# Altium schematic symbol library Cole_.SchLib: 330 symbols (part 2 of 10)
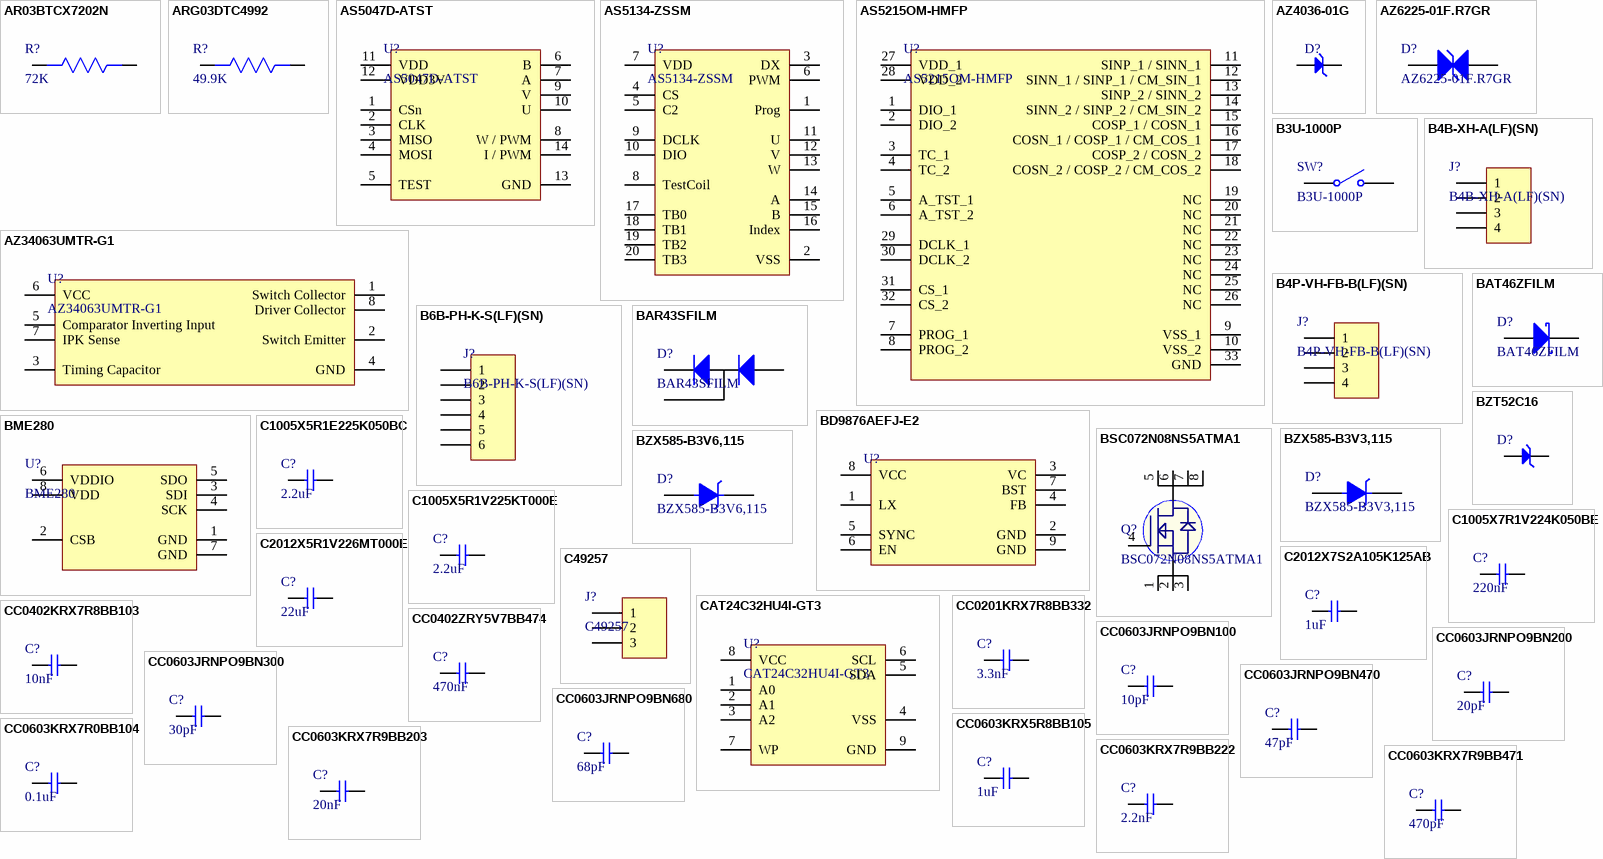
[diagram p9: symbols AR03BTCX7202N to CC0603KRX7R9BB471]

## B3U-1000P
designator SW?
SWITCH TACTILE SPST-NO 0.05A 12V; Manufacturer: Omron; Mechanical Life: 200000Cycles; Operating Force: 1.5N; Throw Configuration: SPST; Current Rating: 50mA; Contact Resistance: 100mR; Illumination Type: Non-Illuminated,Illuminated; Switch Travel: 0.15mm; Switch Function: Off-Mom; Actuator Type: Standard; Actuator Length: 0.4mm; Ratings: Dust Proof,IP40; ComponentLink1URL: http://www.farnell.com/datasheets/60838.pdf?src-supplier=Farnell; ComponentLink1Description: http://www.farnell.com/datasheets/60838.pdf?src-supplier=Farnell; ComponentLink2URL: http://www.farnell.com/datasheets/60838.pdf?src-supplier=Element14; ComponentLink2Description: http://www.farnell.com/datasheets/60838.pdf?src-supplier=Element14; ComponentLink3URL: https://omronfs.omron.com/en_US/ecb/products/pdf/en-b3u.pdf?src-supplier=Digi-Key; ComponentLink3Description: https://omronfs.omron.com/en_US/ecb/products/pdf/en-b3u.pdf?src-supplier=Digi-Key; ComponentLink4URL: http://www.omron.com/ecb/products/pdf/en-b3u.pdf?src-supplier=Digi-Key; ComponentLink4Description: http://www.omron.com/ecb/products/pdf/en-b3u.pdf?src-supplier=Digi-Key; ComponentLink5URL: https://www.distrelec.biz/Web/Downloads/he/et/B3U_eng_datasheet.pdf?mime=application%2Fpdf&src-supplier=Distrelec; ComponentLink5Description: https://www.distrelec.biz/Web/Downloads/he/et/B3U_eng_datasheet.pdf?mime=application%2Fpdf&src-supplier=Distrelec; ComponentLink6URL: http://www.onlinecomponents.com/productFiles/mf-OM/en-b3u.pdf?src-supplier=Onlinecomponents.com; ComponentLink6Description: http://www.onlinecomponents.com/productFiles/mf-OM/en-b3u.pdf?src-supplier=Onlinecomponents.com; Supplier 1: Digi-Key; Manufacturer Part Number: B3U-1000P; Stock 1: 116454; Pricing 1: 1=1, 10=0.961, 25=0.9064, 50=0.7976, 100=0.7251, 250=0.68888, 500=0.67074, 1000=0.52571 (USD); Mount: Surface Mount; Weight: 0.000776oz; Contact Material: Silver; Min Operating Temperature: -25°C; Max Operating Temperature: 70°C; Packaging: Tape and Reel; Voltage Rating (DC): 12V; Package Quantity: 1; Max Current Rating: 50mA; Termination: SMD/SMT; Orientation: Straight; Max Voltage Rating (DC): 12V; Electrical Life: 200000Cycles; Insulation Resistance: 100MR; Contact Current Rating: 50mA; Length: 4mm; Height: 1.2mm; Depth: 2.5mm; Width: 3mm; REACH SVHC: Unknown; Lead Free: Lead Free; ComponentLink7URL: https://www.verical.com/server-webapp/html/getDatasheet?partID=552554&src-supplier=Verical; ComponentLink7Description: https://www.verical.com/server-webapp/html/getDatasheet?partID=552554&src-supplier=Verical; ComponentLink8URL: http://www.farnell.com/datasheets/1685550.pdf?src-supplier=Element14; ComponentLink8Description: http://www.farnell.com/datasheets/1685550.pdf?src-supplier=Element14; ComponentLink9URL: http://www.farnell.com/datasheets/2610940.pdf?src-supplier=Farnell; ComponentLink9Description: http://www.farnell.com/datasheets/2610940.pdf?src-supplier=Farnell; ComponentLink10URL: https://www.alliedelec.com/m/d/4c8a9ef82804fc3c241a13c1e298fd73.pdf?src-supplier=Allied+Electronics; ComponentLink10Description: https://www.alliedelec.com/m/d/4c8a9ef82804fc3c241a13c1e298fd73.pdf?src-supplier=Allied+Electronics; Supplier Part Number 1: SW1020DKR-ND
footprint B3U-1000P (SWITCH TACTILE SPST-NO 0.05A 12V)
pins: 1, 2

## B4B-XH-A(LF)(SN)
designator J?
CONN HEADER VERT 4POS 2.5MM; Manufacturer: JST; Current Rating: 3A; Gender: Male; Contact Resistance: 20mR; Voltage Rating (AC): 250V; Connector Type: Male Pin; Number of Positions: 4; Insulation Resistance: 1GR; Wire/Cable Gauge: 22AWG; Supplier 1: Future Electronics; Manufacturer Part Number: B4B-XH-A(LF)(SN); RoHS: Yes; Category: FFC / FPC; Pricing 1: 1=0.13000, 300=0.11300, 1000=0.11000, 3000=0.10700, 10000=0.10400 (USD); Mount: Through Hole; Contact Material: Brass; Material: Polyamide; Contact Plating: Tin,Copper,Lead; Color: Natural; Housing Material: Polyamide; Housing Color: White; Min Operating Temperature: -25°C; Max Operating Temperature: 85°C; Number of Rows: 1; Max Current Rating: 3A; Package Quantity: 500; Packaging: Bulk; Voltage Rating: 250V; Termination: Press-Fit; Max Voltage Rating (AC): 250V; Max Voltage Rating (DC): 250V; Number of Contacts: 4; Orientation: Straight; Length: 12.4mm; Pitch: 2.5mm; Lead Pitch: 2.5mm; Depth: 5.75mm; REACH SVHC: No SVHC; Lead Free: Lead Free; ComponentLink1URL: https://datasheet.ciiva.com/26894/getdatasheetpartid-455616-26894787.pdf?src-supplier=Verical; ComponentLink1Description: https://datasheet.ciiva.com/26894/getdatasheetpartid-455616-26894787.pdf?src-supplier=Verical; ComponentLink2URL: https://datasheet.ciiva.com/26924/getdatasheetpartid-640571-26924035.pdf?src-supplier=Verical; ComponentLink2Description: https://datasheet.ciiva.com/26924/getdatasheetpartid-640571-26924035.pdf?src-supplier=Verical; ComponentLink3URL: https://datasheet.ciiva.com/16203/b4b-xh-alfsn-16203642.pdf?src-supplier=Future+Electronics; ComponentLink3Description: https://datasheet.ciiva.com/16203/b4b-xh-alfsn-16203642.pdf?src-supplier=Future+Electronics; ComponentLink4URL: https://datasheet.ciiva.com/726/exh-726404.pdf?src-supplier=Digi-Key; ComponentLink4Description: https://datasheet.ciiva.com/726/exh-726404.pdf?src-supplier=Digi-Key; Supplier Part Number 1: 8134090
footprint B4B-XH-A(LF)(SN)
pins: 1, 2, 3, 4

## B4P-VH-FB-B(LF)(SN)
designator J?
CONN HEADER VERT 4POS 3.96MM; Manufacturer: JST; Number of Positions: 4; Supplier 1: Future Electronics; Manufacturer Part Number: B4P-VH-FB-B(LF)(SN); RoHS: Yes; Category: Connectors; Pricing 1: 1=0.22000, 200=0.19300, 500=0.18800, 2000=0.18200, 5000=0.17800 (USD); Mount: Through Hole; Termination: Crimp; Pitch: 3.96mm; Lead Free: Lead Free; ComponentLink1URL: https://datasheet.ciiva.com/16292/b4p-vh-fb-blfsn-16292309.pdf?src-supplier=Future+Electronics; ComponentLink1Description: https://datasheet.ciiva.com/16292/b4p-vh-fb-blfsn-16292309.pdf?src-supplier=Future+Electronics; Supplier Part Number 1: 4271011
footprint B4P-VH-FB-B(LF)(SN) (CONN HEADER VERT 4POS 3.96MM)
pins: 1, 2, 3, 4

## B6B-PH-K-S(LF)(SN)
designator J?
CONN HEADER VERT 6POS 2MM; Manufacturer: JST; Current Rating: 2A; Number of Positions: 6; Insulation Resistance: 1MR; Working Voltage: 100V; Gender: Male; Contact Resistance: 20mR; Connector Type: Male Pin; Supplier 1: Digi-Key; Manufacturer Part Number: B6B-PH-K-S(LF)(SN); RoHS: Yes; Category: Connectors; Stock 1: 6509; Pricing 1: 1=0.33000, 10=0.31300, 100=0.21940, 500=0.18808, 1000=0.15674, 5000=0.13435, 10000=0.12539 (USD); Mount: Through Hole; Number of Pins: 6; Contact Material: Tin,Brass; Color: Natural; Contact Plating: Tin,Copper; Housing Material: Polyamide; Housing Color: White; Min Operating Temperature: -25°C; Max Operating Temperature: 85°C; Termination: Solder; Fastening Type: Detent; Number of Contacts: 6; Max Voltage Rating (AC): 100V; Number of Rows: 1; Packaging: Bulk; Number of Poles: 6; Voltage Rating (AC): 100V; Max Current Rating: 2A; Voltage Rating: 100V; Orientation: Straight; Length: 13.9mm; Width: 4.5mm; Height: 9.4mm; Pitch: 2mm; Contact Mating Length: 0.13inch; Depth: 4.5mm; Lead Pitch: 2mm; Lead Free: Lead Free; REACH SVHC: No SVHC; ComponentLink1URL: https://datasheet.ciiva.com/11747/0900766b8082f554-11747368.pdf?src-supplier=RSComponents; ComponentLink1Description: https://datasheet.ciiva.com/11747/0900766b8082f554-11747368.pdf?src-supplier=RSComponents; ComponentLink2URL: https://datasheet.ciiva.com/712/eph-712563.pdf?src-supplier=Digi-Key; ComponentLink2Description: https://datasheet.ciiva.com/712/eph-712563.pdf?src-supplier=Digi-Key; ComponentLink3URL: https://datasheet.ciiva.com/26894/getdatasheetpartid-639917-26894487.pdf?src-supplier=Verical; ComponentLink3Description: https://datasheet.ciiva.com/26894/getdatasheetpartid-639917-26894487.pdf?src-supplier=Verical; ComponentLink4URL: https://datasheet.ciiva.com/20207/523648-20207241.pdf?src-supplier=Rapid+Electronics; ComponentLink4Description: https://datasheet.ciiva.com/20207/523648-20207241.pdf?src-supplier=Rapid+Electronics; ComponentLink5URL: https://datasheet.ciiva.com/8052/80560-8052027.pdf?src-supplier=Element14; ComponentLink5Description: https://datasheet.ciiva.com/8052/80560-8052027.pdf?src-supplier=Element14; Supplier Part Number 1: 455-1708-ND
footprint B6B-PH-K-S(LF)(SN)
pins: 1, 2, 3, 4, 5, 6

## BAR43SFILM
designator D?
DIODE ARRAY SCHOTTKY 30V SOT23-3; Manufacturer: STMicroelectronics; Forward Voltage: 1V; Forward Current: 100mA; Max Reverse Current: 500nA; Reverse Recovery Time: 5ns; Peak Non-Repetitive Surge Current: 750mA; Capacitance: 7pF; Power Dissipation: 250mW; Element Configuration: Dual; Supplier 1: Avnet; Manufacturer Part Number: BAR43SFILM; RoHS: Yes; Category: Rectifier Diodes; Stock 1: 1953000; Pricing 1: 3000=0.04883, 6000=0.04037, 12000=0.04002, 18000=0.03947, 24000=0.03887, 30000=0.03857, 300000=0.03827 (USD); Mount: Surface Mount; Case/Package: SOT-23; Number of Pins: 3; Weight: 0.01lb; Min Operating Temperature: -65°C; Max Operating Temperature: 150°C; Packaging: Tape and Reel; Max Repetitive Reverse Voltage (Vrrm): 30V; Current Rating: 100mA; Voltage Rating (DC): 30V; Max Surge Current: 750mA; Package Quantity: 3000; Recovery Time: 5ns; Max Reverse Leakage Current: 500nA; Average Rectified Current: 100mA; Max Forward Surge Current (Ifsm): 750mA; Termination: SMD/SMT; Max Reverse Voltage (DC): 30V; Length: 2.9mm; Width: 3.05mm; Height: 0.95mm; Radiation Hardening: No; REACH SVHC: No SVHC; Lead Free: Lead Free; RoHS Compliant: Yes; ComponentLink1URL: https://datasheet.ciiva.com/1177/1700360-1177600.pdf?src-supplier=Element14; ComponentLink1Description: https://datasheet.ciiva.com/1177/1700360-1177600.pdf?src-supplier=Element14; ComponentLink2URL: https://datasheet.ciiva.com/4714/cd00000764-105363-4714418.pdf?src-supplier=Mouser; ComponentLink2Description: https://datasheet.ciiva.com/4714/cd00000764-105363-4714418.pdf?src-supplier=Mouser; ComponentLink3URL: https://datasheet.ciiva.com/34301/924342-34301780.pdf?src-supplier=Jameco; ComponentLink3Description: https://datasheet.ciiva.com/34301/924342-34301780.pdf?src-supplier=Jameco; ComponentLink4URL: https://datasheet.ciiva.com/905/cd00000764-905875.pdf?src-supplier=Digi-Key; ComponentLink4Description: https://datasheet.ciiva.com/905/cd00000764-905875.pdf?src-supplier=Digi-Key; ComponentLink5URL: https://datasheet.ciiva.com/905/cd00000764-905876.pdf?src-supplier=Digi-Key; ComponentLink5Description: https://datasheet.ciiva.com/905/cd00000764-905876.pdf?src-supplier=Digi-Key; ComponentLink6URL: https://datasheet.ciiva.com/905/cd00000764-905877.pdf?src-supplier=Digi-Key; ComponentLink6Description: https://datasheet.ciiva.com/905/cd00000764-905877.pdf?src-supplier=Digi-Key; ComponentLink7URL: https://datasheet.ciiva.com/7964/1700360-7964102.pdf?src-supplier=Element14; ComponentLink7Description: https://datasheet.ciiva.com/7964/1700360-7964102.pdf?src-supplier=Element14; ComponentLink8URL: https://datasheet.ciiva.com/1200/1700360-1200008.pdf?src-supplier=Farnell; ComponentLink8Description: https://datasheet.ciiva.com/1200/1700360-1200008.pdf?src-supplier=Farnell; ComponentLink9URL: https://datasheet.ciiva.com/1199/1700360-1199962.pdf?src-supplier=Farnell; ComponentLink9Description: https://datasheet.ciiva.com/1199/1700360-1199962.pdf?src-supplier=Farnell; ComponentLink10URL: https://datasheet.ciiva.com/15144/getdatasheetpartid-39351-15144075.pdf?src-supplier=Verical; ComponentLink10Description: https://datasheet.ciiva.com/15144/getdatasheetpartid-39351-15144075.pdf?src-supplier=Verical; ComponentLink11URL: https://datasheet.ciiva.com/16226/cd00000764-16226780.pdf?src-supplier=Future+Electronics; ComponentLink11Description: https://datasheet.ciiva.com/16226/cd00000764-16226780.pdf?src-supplier=Future+Electronics; ComponentLink12URL: https://datasheet.ciiva.com/27746/47-2902e-27746700.pdf?src-supplier=Rapid+Electronics; ComponentLink12Description: https://datasheet.ciiva.com/27746/47-2902e-27746700.pdf?src-supplier=Rapid+Electronics; ComponentLink13URL: https://datasheet.ciiva.com/1177/1837092-1177598.pdf?src-supplier=Element14; ComponentLink13Description: https://datasheet.ciiva.com/1177/1837092-1177598.pdf?src-supplier=Element14; ComponentLink14URL: https://datasheet.ciiva.com/14560/70013844-14560526.pdf?src-supplier=Allied+Electronics; ComponentLink14Description: https://datasheet.ciiva.com/14560/70013844-14560526.pdf?src-supplier=Allied+Electronics; ComponentLink15URL: https://datasheet.ciiva.com/1177/1837092-1177599.pdf?src-supplier=Element14; ComponentLink15Description: https://datasheet.ciiva.com/1177/1837092-1177599.pdf?src-supplier=Element14; Supplier Part Number 1: BAR43SFILM
footprint SOT-23 (TRANS NPN 40V 0.6A SOT23)
pins: 1 A2, 2 K1, 3 A1/K2

## BAT46ZFILM
designator D?
DIODE SCHOTTKY 100V 150MA SOD123; Manufacturer: STMicroelectronics; Peak Non-Repetitive Surge Current: 1A; Element Configuration: Single; Forward Voltage: 1V; Max Reverse Current: 20uA; Max Reverse Leakage Current: 5uA; Polarity: Standard; Current Rating: 160mA; Capacitance: 10pF; Supplier 1: Digi-Key; Manufacturer Part Number: BAT46ZFILM; RoHS: Yes; Category: Rectifier Diodes; Stock 1: 691; Pricing 1: 1=0.37000, 10=0.27400, 100=0.15510, 500=0.10272, 1000=0.07875 (USD); Mount: Surface Mount; Number of Pins: 2; Contact Plating: Tin,Matte; Min Operating Temperature: -65°C; Max Operating Temperature: 150°C; Forward Current: 150mA; Max Repetitive Reverse Voltage (Vrrm): 100V; Max Surge Current: 1A; Package Quantity: 3000; Packaging: Tape and Reel; Average Rectified Current: 150mA; Max Forward Surge Current (Ifsm): 1A; Voltage Rating (DC): 100V; Output Current: 150mA; Max Reverse Voltage (DC): 100V; Series: -; Length: 2.85mm; Width: 1.7mm; Height: 1.35mm; Radiation Hardening: No; REACH SVHC: No SVHC; Lead Free: Lead Free; RoHS Compliant: Yes; ComponentLink1URL: https://datasheet.ciiva.com/23920/cd00004930-23920128.pdf?src-supplier=Newark; ComponentLink1Description: https://datasheet.ciiva.com/23920/cd00004930-23920128.pdf?src-supplier=Newark; ComponentLink2URL: https://datasheet.ciiva.com/4714/cd00004930-111868-4714530.pdf?src-supplier=Mouser; ComponentLink2Description: https://datasheet.ciiva.com/4714/cd00004930-111868-4714530.pdf?src-supplier=Mouser; ComponentLink3URL: https://datasheet.ciiva.com/17097/bat46zfilm-17097700.pdf?src-supplier=Allied+Electronics; ComponentLink3Description: https://datasheet.ciiva.com/17097/bat46zfilm-17097700.pdf?src-supplier=Allied+Electronics; ComponentLink4URL: https://datasheet.ciiva.com/14168/cd00004930-14168058.pdf?src-supplier=Distrelec; ComponentLink4Description: https://datasheet.ciiva.com/14168/cd00004930-14168058.pdf?src-supplier=Distrelec; ComponentLink5URL: https://datasheet.ciiva.com/915/cd00004930-915571.pdf?src-supplier=Digi-Key; ComponentLink5Description: https://datasheet.ciiva.com/915/cd00004930-915571.pdf?src-supplier=Digi-Key; ComponentLink6URL: https://datasheet.ciiva.com/915/cd00004930-915572.pdf?src-supplier=Digi-Key; ComponentLink6Description: https://datasheet.ciiva.com/915/cd00004930-915572.pdf?src-supplier=Digi-Key; ComponentLink7URL: https://datasheet.ciiva.com/915/cd00004930-915573.pdf?src-supplier=Digi-Key; ComponentLink7Description: https://datasheet.ciiva.com/915/cd00004930-915573.pdf?src-supplier=Digi-Key; ComponentLink8URL: https://datasheet.ciiva.com/15144/getdatasheetpartid-89559-15144645.pdf?src-supplier=Verical; ComponentLink8Description: https://datasheet.ciiva.com/15144/getdatasheetpartid-89559-15144645.pdf?src-supplier=Verical; ComponentLink9URL: https://datasheet.ciiva.com/16575/cd00004930-16575814.pdf?src-supplier=Avnet+Europe; ComponentLink9Description: https://datasheet.ciiva.com/16575/cd00004930-16575814.pdf?src-supplier=Avnet+Europe; ComponentLink10URL: https://datasheet.ciiva.com/16221/cd00004930-16221159.pdf?src-supplier=Future+Electronics; ComponentLink10Description: https://datasheet.ciiva.com/16221/cd00004930-16221159.pdf?src-supplier=Future+Electronics; ComponentLink11URL: https://datasheet.ciiva.com/22733/1761349-22733179.pdf?src-supplier=Element14; ComponentLink11Description: https://datasheet.ciiva.com/22733/1761349-22733179.pdf?src-supplier=Element14; Supplier Part Number 1: 497-5559-1-ND
footprint SOD-123 (DIODE SCHOTTKY 100V 150MA SOD123)
pins: 1 K, 2 A

## BD9876AEFJ-E2
designator U?
NO Step-down type 1 Step-down 1V~29.4V 7V~42V 3A 300kHz SOIC-8_EP_150mil DC-DC Converters ROHS; Manufacturer: ROHM Semicon; Manufacturer Part Number: BD9876AEFJ-E2; ComponentLink1Description: LCSC; ComponentLink1URL: https://www.lcsc.com/product-detail/DC-DC-Converters_ROHM-Semicon-BD9876AEFJ-E2_C79958.html; Footprint: SOIC-8_EP_150mil
footprint 8-HTSOP-J
pins: 1 LX, 2 GND, 3 VC, 4 FB, 5 SYNC, 6 EN, 7 BST, 8 VCC, 9 GND

## BME280
designator U?
Humidity, Pressure, Temperature Sensor I²C Output; Manufacturer: Bosch; ComponentLink1URL: http://www.mouser.com/ds/2/783/BST-BME280_DS001-11-844833.pdf; ComponentLink1Description: http://www.mouser.com/ds/2/783/BST-BME280_DS001-11-844833.pdf; ComponentLink2URL: https://ae-bst.resource.bosch.com/media/_tech/media/others/Bosch_Sensortec_Product_overview.pdf; ComponentLink2Description: https://ae-bst.resource.bosch.com/media/_tech/media/others/Bosch_Sensortec_Product_overview.pdf; Supplier 1: Digi-Key; Manufacturer Part Number: BME280; Stock 1: 62235; Pricing 1: 1=7.56, 5=6.628, 10=5.965, 25=5.302, 50=4.9044, 100=4.2416, 500=3.9765, 1000=3.7114 (USD); Lead Free: Lead Free; ComponentLink3URL: https://ae-bst.resource.bosch.com/media/_tech/media/product_flyer/BME280_Productflyer_BST_20170109.pdf; ComponentLink3Description: https://ae-bst.resource.bosch.com/media/_tech/media/product_flyer/BME280_Productflyer_BST_20170109.pdf; Supplier Part Number 1: 828-1063-1-ND
footprint BME280 (Humidity, Pressure, Temperature Sensor I²C Output)
pins: 1 GND, 2 CSB, 3 SDI, 4 SCK, 5 SDO, 6 VDDIO, 7 GND, 8 VDD

## BSC072N08NS5ATMA1
designator Q?
MOSFET N-CH 80V 74A 8TDSON; Manufacturer: Infineon; Rds On Max: 7.2mR; Input Capacitance: 2.1nF; Max Power Dissipation: 2.5W; Element Configuration: Single; Number of Channels: 1; Drain to Source Resistance: 10.4mR; Gate to Source Voltage (Vgs): 20V; Fall Time: 5ns; Rise Time: 7ns; Turn-Off Delay Time: 19ns; Turn-On Delay Time: 10ns; Supplier 1: Avnet; Manufacturer Part Number: BSC072N08NS5ATMA1; RoHS: Yes; Category: MOSFETs; Pricing 1: 5000=0.70449, 10000=0.68054, 20000=0.66110, 30000=0.64651, 40000=0.62221, 50000=0.60641, 500000=0.59061 (USD); Mount: Surface Mount; Number of Pins: 8; Weight: 0.01787oz; Min Operating Temperature: -55°C; Max Operating Temperature: 150°C; Packaging: Tape and Reel; Drain to Source Voltage (Vdss): 80V; Continuous Drain Current (ID): 74A; Package Quantity: 5000; Max Dual Supply Voltage: 80V; Lead Free: Contains Lead; Halogen Free: Halogen Free; ComponentLink1URL: http://www.mouser.com/ds/2/196/Infineon-BSC072N08NS5-DS-v02_00-EN-531318.pdf?src-supplier=Mouser; ComponentLink1Description: http://www.mouser.com/ds/2/196/Infineon-BSC072N08NS5-DS-v02_00-EN-531318.pdf?src-supplier=Mouser; ComponentLink2URL: https://www.infineon.com/dgdl/Infineon-BSC072N08NS5-DS-v02_00-EN.pdf?fileId=5546d4624ad04ef9014ae3d8e8192c7c&src-supplier=Digi-Key; ComponentLink2Description: https://www.infineon.com/dgdl/Infineon-BSC072N08NS5-DS-v02_00-EN.pdf?fileId=5546d4624ad04ef9014ae3d8e8192c7c&src-supplier=Digi-Key; Supplier Part Number 1: BSC072N08NS5ATMA1
footprint 8-PowerTDFN (MOSFET N-CH 80V 74A TDSON)
pins: 1 S, 2 S, 3 S, 4 G, 5 D, 6 D, 7 D, 8 D

## BZT52C16
designator D?
±5% Single 15.3V~17.1V 500mW 16V SOD-123 Zener Diodes ROHS; Manufacturer: Shikues; Manufacturer Part Number: BZT52C16; Package: SOD-123; LCSC Part Number: C216724; Item Type: Zener Diode; ComponentLink1Description: LCSC; ComponentLink1URL: https://www.lcsc.com/product-detail/Zener-Diodes_Shikues-BZT52C16_C216724.html
footprint SOD-123
pins: 1 A, 2 K

## BZX585-B3V3,115
designator D?
DIODE ZENER 3.3V 300MW SOD523; Manufacturer: Nexperia; Supplier 1: Digi-Key; Manufacturer Part Number: BZX585-B3V3,115; RoHS: Yes; Category: Zener Diodes; Stock 1: 4531; Pricing 1: 1=0.27000, 10=0.22500, 100=0.11910, 500=0.07838, 1000=0.05330 (USD); RoHS Compliant: Yes; ComponentLink1URL: http://www.farnell.com/datasheets/2174102.pdf?src-supplier=Farnell; ComponentLink1Description: http://www.farnell.com/datasheets/2174102.pdf?src-supplier=Farnell; ComponentLink2URL: https://assets.nexperia.com/documents/data-sheet/BZX585_SERIES.pdf?src-supplier=Digi-Key; ComponentLink2Description: https://assets.nexperia.com/documents/data-sheet/BZX585_SERIES.pdf?src-supplier=Digi-Key; Supplier Part Number 1: 1727-4995-1-ND
footprint SOD-523F
pins: 1 ANODE, 2 CATHODE

## BZX585-B3V6,115
designator D?
DIODE ZENER 3.6V 300MW SOD523; Manufacturer: Nexperia; Supplier 1: Digi-Key; Manufacturer Part Number: BZX585-B3V6,115; RoHS: Yes; Stock 1: 4116; Pricing 1: 1=0.27000, 10=0.22500, 100=0.11910, 500=0.07838, 1000=0.05330 (USD); RoHS Compliant: Yes; Supplier Part Number 1: 1727-2104-1-ND
footprint SOD-523F
pins: 1 ANODE, 2 CATHODE

## C1005X5R1E225K050BC
designator C?, comment 2.2uF
CAP CER 2.2UF 25V X5R 0402; Manufacturer: TDK; Manufacturer Part Number: C1005X5R1E225K050BC; Dielectric Material: Ceramic; Tolerance: 10%; Supplier 1: Digi-Key; RoHS: Yes; Category: Ceramic Capacitors; Stock 1: 547; Pricing 1: 1=0.31000, 10=0.21000, 50=0.13980, 100=0.11890, 500=0.08390, 1000=0.07342, 2500=0.06992, 5000=0.06468 (USD); Mount: Surface Mount; Case/Package: 0402; Case Code (Imperial): 0402; Case Code (Metric): 1005; Weight: 2.3E-05oz; Min Operating Temperature: -55°C; Max Operating Temperature: 85°C; Capacitance: 2.2uF; Packaging: Tape and Reel; Voltage Rating: 25V; Termination: SMD/SMT; Voltage Rating (DC): 25V; Package Quantity: 1; Dielectric: X5R; Series: C; Resistor Type: Ceramic; Length: 1mm; Width: 0.5mm; Height: 0.5mm; Thickness: 0.022inch; Depth: 0.5mm; REACH SVHC: No SVHC; RoHS Compliant: Yes; Lead Free: Lead Free; ComponentLink1URL: https://datasheet.ciiva.com/24217/c1005x5r1e225k050bc-264404-24217075.pdf?src-supplier=Mouser; ComponentLink1Description: https://datasheet.ciiva.com/24217/c1005x5r1e225k050bc-264404-24217075.pdf?src-supplier=Mouser; ComponentLink2URL: https://datasheet.ciiva.com/6276/tdkmlcccaprange-6276808.pdf?src-supplier=Digi-Key; ComponentLink2Description: https://datasheet.ciiva.com/6276/tdkmlcccaprange-6276808.pdf?src-supplier=Digi-Key; ComponentLink3URL: https://datasheet.ciiva.com/6276/tdkmlcccaprange-6276806.pdf?src-supplier=Digi-Key; ComponentLink3Description: https://datasheet.ciiva.com/6276/tdkmlcccaprange-6276806.pdf?src-supplier=Digi-Key; ComponentLink4URL: https://datasheet.ciiva.com/6276/tdkmlcccaprange-6276810.pdf?src-supplier=Digi-Key; ComponentLink4Description: https://datasheet.ciiva.com/6276/tdkmlcccaprange-6276810.pdf?src-supplier=Digi-Key; Supplier Part Number 1: 445-9090-1-ND
footprint Cap 0402
pins: 1, 2

## C1005X5R1V225KT000E
designator C?, comment 2.2uF
CAP CER 2.2UF 35V X5R 0402; Manufacturer: TDK; Tolerance: ±10%; Capacitance: 2.2uF; Voltage - Rated: 35V; Temperature Coefficient: X5R
footprint Cap 0402
pins: 1, 2

## C1005X7R1V224K050BE
designator C?, comment 220nF
CAP CER 0.22UF 35V X7R 0402; Manufacturer: TDK; Manufacturer Part Number: C1005X7R1V224K050BE; Tolerance: 10%; Supplier 1: Digi-Key; RoHS: Yes; Category: Ceramic Capacitors; Stock 1: 294134; Pricing 1: 1=0.24000, 10=0.16500, 50=0.09900, 100=0.08360, 500=0.05720, 1000=0.05060, 2500=0.04840, 5000=0.04400 (USD); Mount: Surface Mount; Case/Package: 0402; Case Code (Metric): 1005; Case Code (Imperial): 0402; Min Operating Temperature: -55°C; Max Operating Temperature: 125°C; Packaging: Tape and Reel; Capacitance: 220nF; Voltage Rating: 35V; Features: Soft Termination; Length: 0.039inch; Width: 0.02inch; Thickness: 0.024inch; RoHS Compliant: Yes; ComponentLink1URL: https://product.tdk.com/info/en/catalog/spec/mlccspec_commercial_soft_en.pdf?src-supplier=Digi-Key; ComponentLink1Description: https://product.tdk.com/info/en/catalog/spec/mlccspec_commercial_soft_en.pdf?src-supplier=Digi-Key; Supplier Part Number 1: 445-173778-1-ND
footprint Cap 0402
pins: 1, 2

## C2012X5R1V226MT000E
designator C?, comment 22uF
CAP CER 22UF 35V X5R 0805
footprint Cap0805 (SMD 0805)
pins: 1, 2

## C2012X7S2A105K125AB
designator C?, comment 1uF
CAP CER 1UF 100V X7S 0805; Manufacturer: TDK; Manufacturer Part Number: C2012X7S2A105K125AB; Tolerance: 10%; ComponentLink1URL: https://datasheet.ciiva.com/25711/cl31b105kchnnne-25711248.pdf?src-supplier=Digi-Key; ComponentLink1Description: https://datasheet.ciiva.com/25711/cl31b105kchnnne-25711248.pdf?src-supplier=Digi-Key; ComponentLink2URL: https://datasheet.ciiva.com/16437/clseries-16437207.pdf?src-supplier=Future+Electronics; ComponentLink2Description: https://datasheet.ciiva.com/16437/clseries-16437207.pdf?src-supplier=Future+Electronics; Supplier 1: Mouser; RoHS: Yes; Category: Ceramic Capacitors; Stock 1: 18167; Pricing 1: 1=0.50000, 10=0.24200, 50=0.24200, 100=0.20700, 1000=0.13200, 10000=0.12400 (USD); Mount: Surface Mount; Case/Package: 0805; Number of Pins: 2; Case Code (Imperial): 0805; Case Code (Metric): 2012; Weight: 0.000194oz; Min Operating Temperature: -55°C; Max Operating Temperature: 125°C; Capacitance: 1uF; Voltage Rating: 100V; Voltage Rating (DC): 100V; Packaging: Tape and Reel; Package Quantity: 1; Dielectric: X7S; Termination: SMD/SMT; Resistor Type: Ceramic; Voltage: 100V; Series: C; Length: 2mm; Width: 1.25mm; Height: 1.25mm; Thickness: 0.053inch; Depth: 1.25mm; REACH SVHC: No SVHC; Lead Free: Lead Free; RoHS Compliant: Yes; ComponentLink3URL: https://datasheet.ciiva.com/24216/c2012x7s2a105k125ab-265082-24216433.pdf?src-supplier=Mouser; ComponentLink3Description: https://datasheet.ciiva.com/24216/c2012x7s2a105k125ab-265082-24216433.pdf?src-supplier=Mouser; ComponentLink4URL: https://datasheet.ciiva.com/16427/newmlccproducts-16427795.pdf?src-supplier=Future+Electronics; ComponentLink4Description: https://datasheet.ciiva.com/16427/newmlccproducts-16427795.pdf?src-supplier=Future+Electronics; ComponentLink5URL: https://datasheet.ciiva.com/8079/1833281-8079405.pdf?src-supplier=Element14; ComponentLink5Description: https://datasheet.ciiva.com/8079/1833281-8079405.pdf?src-supplier=Element14; Supplier Part Number 1: 810-C2012X7S2A105K
footprint Cap0805 (SMD 0805)
pins: 1, 2

## C49257
designator J?
Pin Header 3 Straight.2.54mm TH Pin Header; Manufacturer: BOOMELE(Boom Precision Elec); Package: Through Hole; Connector Type: Pin Header; Type: Straight，180degrees
footprint C49257 (Pin Header 3 1 Straight,180degrees)
pins: 1, 2, 3

## CAT24C32HU4I-GT3
designator U?
IC EEPROM 32KBIT I2C 1MHZ 8UDFN; Manufacturer: ON Semiconductor; Interface: I2C,Serial,2-Wire; Density: 32Kb; Max Supply Voltage: 5.5V; Min Supply Voltage: 1.7V; Number of Words: 4096; Access Time: 3500ns; Frequency: 100kHz; Nominal Supply Current: 2mA; Operating Supply Voltage: 5V; Organization: 4KX8; Access Time-Max: 900ns; Write Protection: YES; Supplier 1: Digi-Key; Manufacturer Part Number: CAT24C32HU4I-GT3; RoHS: Yes; Category: EEPROM; Stock 1: 5701; Pricing 1: 1=0.47000, 10=0.45700, 25=0.42440, 50=0.42220, 100=0.37490, 250=0.37012, 500=0.36452, 1000=0.35478 (USD); Mount: Surface Mount; Number of Pins: 8; Contact Plating: Gold; Min Operating Temperature: -40°C; Max Operating Temperature: 85°C; Packaging: Tape and Reel; Package Quantity: 3000; Memory Type: EEPROM; Memory Size: 32Kb; Max Frequency: 1MHz; Series: -; Supply Current: 2mA; Length: 3.05mm; Width: 2.05mm; Height: 0.5mm; Radiation Hardening: No; REACH SVHC: No SVHC; Lead Free: Lead Free; Halogen Free: Halogen Free; RoHS Compliant: Yes; ComponentLink1URL: https://datasheet.ciiva.com/15123/getdatasheetpartid-488928-15123672.pdf?src-supplier=Verical; ComponentLink1Description: https://datasheet.ciiva.com/15123/getdatasheetpartid-488928-15123672.pdf?src-supplier=Verical; ComponentLink2URL: https://datasheet.ciiva.com/1912/cat24c32-d-1912019.pdf?src-supplier=Digi-Key; ComponentLink2Description: https://datasheet.ciiva.com/1912/cat24c32-d-1912019.pdf?src-supplier=Digi-Key; ComponentLink3URL: https://datasheet.ciiva.com/9282/cat24c32-d-9282397.pdf?src-supplier=Avnet; ComponentLink3Description: https://datasheet.ciiva.com/9282/cat24c32-d-9282397.pdf?src-supplier=Avnet; ComponentLink4URL: https://datasheet.ciiva.com/22618/1696760-22618476.pdf?src-supplier=Element14; ComponentLink4Description: https://datasheet.ciiva.com/22618/1696760-22618476.pdf?src-supplier=Element14; Supplier Part Number 1: CAT24C32HU4I-GT3OSCT-ND
footprint 8-UDFN-EP (2x3)
pins: 1 A0, 2 A1, 3 A2, 4 VSS, 5 SDA, 6 SCL, 7 WP, 8 VCC, 9 GND

## CC0201KRX7R8BB332
designator C?, comment 3.3nF
CAP CER 3300PF 25V X7R 0201; Manufacturer: Yageo; Manufacturer Part Number: CC0201KRX7R8BB332; Supplier 1: Mouser; RoHS: Yes; Stock 1: 14481; Pricing 1: 1=0.10000, 10=0.02100, 50=0.02100, 100=0.01000, 1000=0.00800, 10000=0.00500 (USD); RoHS Compliant: Yes; Supplier Part Number 1: 603-CC0201KRX7R8BB33
footprint CAP 0201
pins: 1, 2

## CC0402KRX7R8BB103
designator C?, comment 10nF
CAP CER 10000PF 25V X7R 0402; Manufacturer: Yageo; Manufacturer Part Number: CC0402KRX7R8BB103; Tolerance: 10%; Supplier 1: Digi-Key; Stock 1: 0; Pricing 1: 1=0.1, 10=0.021, 100=0.0093, 500=0.00666, 1000=0.00523, 2500=0.00476, 5000=0.00438 (USD); Mount: Surface Mount; Case/Package: 0402; Case Code (Metric): 1005; Case Code (Imperial): 0402; Min Operating Temperature: -55°C; Max Operating Temperature: 125°C; Capacitance: 10nF; Dielectric: X7R; Voltage Rating: 25V; Package Quantity: 1; Packaging: Tape and Reel; Voltage Rating (DC): 25V; Termination: SMD/SMT; Composition: Ceramic; Length: 1mm; Height: 0.5mm; Depth: 0.5mm; Width: 0.02inch; Thickness: 0.022inch; Radiation Hardening: No; REACH SVHC: Unknown; Lead Free: Lead Free; Halogen Free: Halogen Free; ComponentLink1URL: http://www.yageo.com/documents/recent/UPY-GPHC_X7R_6.3V-to-50V_18.pdf?src-supplier=Digi-Key; ComponentLink1Description: http://www.yageo.com/documents/recent/UPY-GPHC_X7R_6.3V-to-50V_18.pdf?src-supplier=Digi-Key; ComponentLink2URL: https://www.verical.com/server-webapp/html/getDatasheet?partID=375418&src-supplier=Verical; ComponentLink2Description: https://www.verical.com/server-webapp/html/getDatasheet?partID=375418&src-supplier=Verical; ComponentLink3URL: http://www.yageo.com/documents/recent/UPY-GPHC_X7R_6.3V-to-50V_8.pdf?src-supplier=Avnet; ComponentLink3Description: http://www.yageo.com/documents/recent/UPY-GPHC_X7R_6.3V-to-50V_8.pdf?src-supplier=Avnet; ComponentLink4URL: https://4donline.ihs.com/images/VipMasterIC/IC/YAGO/YAGO-S-A0003557223/YAGO-S-A0003557223-1.pdf?hkey=52A5661711E402568146F3353EA87419&src-supplier=Element14; ComponentLink4Description: https://4donline.ihs.com/images/VipMasterIC/IC/YAGO/YAGO-S-A0003557223/YAGO-S-A0003557223-1.pdf?hkey=52A5661711E402568146F3353EA87419&src-supplier=Element14; ComponentLink5URL: http://www.farnell.com/datasheets/2167236.pdf?src-supplier=Element14; ComponentLink5Description: http://www.farnell.com/datasheets/2167236.pdf?src-supplier=Element14; ComponentLink6URL: http://www.mouser.com/ds/2/447/Yageo_UPY-GP_NP0_16V-to-50V_9-358835.pdf?src-supplier=Mouser; ComponentLink6Description: http://www.mouser.com/ds/2/447/Yageo_UPY-GP_NP0_16V-to-50V_9-358835.pdf?src-supplier=Mouser; Supplier Part Number 1: 311-1337-1-ND
footprint Cap 0402
pins: 1, 2

## CC0402ZRY5V7BB474
designator C?, comment 470nF
CAP CER 0.47UF 16V Y5V 0402; Manufacturer: Yageo; Manufacturer Part Number: CC0402ZRY5V7BB474; Tolerance: 80%; Supplier 1: Digi-Key; RoHS: Yes; Category: Ceramic Capacitors; Stock 1: 36931; Pricing 1: 1=0.12000, 10=0.08700, 50=0.04760, 100=0.03890, 500=0.02782, 1000=0.02185, 2500=0.01987, 5000=0.01828 (USD); Mount: Surface Mount; Case/Package: 0402; Case Code (Imperial): 0402; Case Code (Metric): 1005; Weight: 2.3E-05oz; Min Operating Temperature: -30°C; Max Operating Temperature: 85°C; Capacitance: 470nF; Voltage Rating (DC): 16V; Packaging: Tape and Reel; Voltage Rating: 16V; Dielectric: Y5V; Termination: SMD/SMT; Resistor Type: Ceramic; Series: CC; Length: 1mm; Width: 0.02inch; Thickness: 0.022inch; Depth: 0.5mm; Radiation Hardening: No; Lead Free: Lead Free; Halogen Free: Halogen Free; RoHS Compliant: Yes; ComponentLink1URL: https://datasheet.ciiva.com/26862/getdatasheetpartid-136751-26862666.pdf?src-supplier=Verical; ComponentLink1Description: https://datasheet.ciiva.com/26862/getdatasheetpartid-136751-26862666.pdf?src-supplier=Verical; Supplier Part Number 1: 311-1735-1-ND
footprint Cap 0402
pins: 1, 2

## CC0603JRNPO9BN100
designator C?, comment 10pF
CAP CER 10PF 50V NP0 0603; Manufacturer: Yageo; Manufacturer Part Number: CC0603JRNPO9BN100; Tolerance: 5%; Dielectric: C0G; Temperature Coefficient: 30ppm/°C; Insulation Resistance: 100GR; Supplier 1: Digi-Key; RoHS: Yes; Category: Ceramic Capacitors; Stock 1: 588987; Pricing 1: 1=0.10000, 10=0.04100, 50=0.02220, 100=0.01810, 500=0.01296, 1000=0.01018 (USD); Mount: Surface Mount; Case/Package: 0603; Number of Pins: 2; Case Code (Metric): 1608; Case Code (Imperial): 0603; Min Operating Temperature: -55°C; Max Operating Temperature: 125°C; Capacitance: 10pF; Voltage: 50V; Voltage Rating: 50V; Voltage Rating (DC): 50V; Packaging: Tape and Reel; Package Quantity: 1; Termination: SMD/SMT; Resistor Type: Ceramic; Series: CC; Length: 1.6mm; Width: 0.031inch; Height: 0.8mm; Thickness: 0.035inch; Depth: 0.8mm; Radiation Hardening: No; RoHS Compliant: Yes; REACH SVHC: No SVHC; Lead Free: Lead Free; ComponentLink1URL: https://datasheet.ciiva.com/5789/1734582-5789616.pdf?src-supplier=Farnell; ComponentLink1Description: https://datasheet.ciiva.com/5789/1734582-5789616.pdf?src-supplier=Farnell; ComponentLink2URL: https://datasheet.ciiva.com/26862/getdatasheetpartid-403524-26862758.pdf?src-supplier=Verical; ComponentLink2Description: https://datasheet.ciiva.com/26862/getdatasheetpartid-403524-26862758.pdf?src-supplier=Verical; ComponentLink3URL: https://datasheet.ciiva.com/11786/0900766b8079c870-11786407.pdf?src-supplier=RSComponents; ComponentLink3Description: https://datasheet.ciiva.com/11786/0900766b8079c870-11786407.pdf?src-supplier=RSComponents; ComponentLink4URL: https://datasheet.ciiva.com/144/mlccorderingcode-144651.pdf?src-supplier=Digi-Key; ComponentLink4Description: https://datasheet.ciiva.com/144/mlccorderingcode-144651.pdf?src-supplier=Digi-Key; ComponentLink5URL: https://datasheet.ciiva.com/46430/1835847-46430150.pdf?src-supplier=Element14; ComponentLink5Description: https://datasheet.ciiva.com/46430/1835847-46430150.pdf?src-supplier=Element14; ComponentLink6URL: https://datasheet.ciiva.com/144/mlccorderingcode-144649.pdf?src-supplier=Digi-Key; ComponentLink6Description: https://datasheet.ciiva.com/144/mlccorderingcode-144649.pdf?src-supplier=Digi-Key; ComponentLink7URL: https://datasheet.ciiva.com/144/mlccorderingcode-144650.pdf?src-supplier=Digi-Key; ComponentLink7Description: https://datasheet.ciiva.com/144/mlccorderingcode-144650.pdf?src-supplier=Digi-Key; ComponentLink8URL: https://datasheet.ciiva.com/8033/1734582-8033706.pdf?src-supplier=Element14; ComponentLink8Description: https://datasheet.ciiva.com/8033/1734582-8033706.pdf?src-supplier=Element14; ComponentLink9URL: https://datasheet.ciiva.com/16625/upy-gp-np0-16v-to-50v-8-16625514.pdf?src-supplier=Avnet+Europe; ComponentLink9Description: https://datasheet.ciiva.com/16625/upy-gp-np0-16v-to-50v-8-16625514.pdf?src-supplier=Avnet+Europe; ComponentLink10URL: https://datasheet.ciiva.com/5425/upy-gp-np0-16v-to-50v-8-5425564.pdf?src-supplier=Mouser; ComponentLink10Description: https://datasheet.ciiva.com/5425/upy-gp-np0-16v-to-50v-8-5425564.pdf?src-supplier=Mouser; ComponentLink11URL: https://datasheet.ciiva.com/7978/1132289-7978126.pdf?src-supplier=Element14; ComponentLink11Description: https://datasheet.ciiva.com/7978/1132289-7978126.pdf?src-supplier=Element14; ComponentLink12URL: https://datasheet.ciiva.com/8033/1734582-8033710.pdf?src-supplier=Element14; ComponentLink12Description: https://datasheet.ciiva.com/8033/1734582-8033710.pdf?src-supplier=Element14; Supplier Part Number 1: 311-1058-1-ND
footprint Cap 0603
pins: 1, 2

## CC0603JRNPO9BN200
designator C?, comment 20pF
CAP CER 20PF 50V C0G/NPO 0603; Manufacturer: Yageo; Manufacturer Part Number: CC0603JRNPO9BN200; Tolerance: 5%; Dielectric: C0G; Supplier 1: Digi-Key; RoHS: Yes; Category: Ceramic Capacitors; Stock 1: 122419; Pricing 1: 1=0.10000, 10=0.04400, 50=0.02380, 100=0.01950, 500=0.01390, 1000=0.01092 (USD); Mount: Surface Mount; Case/Package: 0603; Number of Pins: 2; Case Code (Imperial): 0603; Case Code (Metric): 1608; Weight: 7.1E-05oz; Min Operating Temperature: -55°C; Max Operating Temperature: 125°C; Capacitance: 20pF; Package Quantity: 4000; Voltage Rating (DC): 50V; Packaging: Tape and Reel; Voltage Rating: 50V; Termination: SMD/SMT; Resistor Type: Ceramic; Series: CC; Length: 1.6mm; Width: 0.8mm; Thickness: 0.035inch; Depth: 0.8mm; REACH SVHC: Unknown; Lead Free: Lead Free; RoHS Compliant: Yes; ComponentLink1URL: https://datasheet.ciiva.com/7978/1132289-7978134.pdf?src-supplier=Element14; ComponentLink1Description: https://datasheet.ciiva.com/7978/1132289-7978134.pdf?src-supplier=Element14; ComponentLink2URL: https://datasheet.ciiva.com/176/mlccorderingcode-176538.pdf?src-supplier=Digi-Key; ComponentLink2Description: https://datasheet.ciiva.com/176/mlccorderingcode-176538.pdf?src-supplier=Digi-Key; ComponentLink3URL: https://datasheet.ciiva.com/176/mlccorderingcode-176539.pdf?src-supplier=Digi-Key; ComponentLink3Description: https://datasheet.ciiva.com/176/mlccorderingcode-176539.pdf?src-supplier=Digi-Key; ComponentLink4URL: https://datasheet.ciiva.com/176/mlccorderingcode-176540.pdf?src-supplier=Digi-Key; ComponentLink4Description: https://datasheet.ciiva.com/176/mlccorderingcode-176540.pdf?src-supplier=Digi-Key; Supplier Part Number 1: 311-1424-1-ND
footprint Cap 0603
pins: 1, 2

## CC0603JRNPO9BN300
designator C?, comment 30pF
CAP 30pF NP0 0603 50 V ±5 % SMD; Manufacturer: Yageo; Manufacturer Part Number: CC0603JRNPO9BN300; Tolerance: 5%; Dielectric: C0G; Voltage Rating: 50V; Dissipation Factor: 0.1%; Insulation Resistance: 10GR; Supplier 1: Digi-Key; RoHS: Yes; Category: Ceramic Capacitors; Stock 1: 36700; Pricing 1: 1=0.10000, 10=0.06800, 50=0.03700, 100=0.03020, 500=0.02160, 1000=0.01697 (USD); Mount: Surface Mount; Case/Package: 0603; Number of Pins: 2; Case Code (Imperial): 0603; Case Code (Metric): 1608; Weight: 7.1E-05oz; Min Operating Temperature: -55°C; Max Operating Temperature: 125°C; Capacitance: 30pF; Packaging: Tape and Reel; Voltage Rating (DC): 50V; Termination: SMD/SMT; Resistor Type: Ceramic; Series: CC; Construction: Flat; Length: 1.6mm; Width: 0.031inch; Height: 0.8mm; Thickness: 0.035inch; Depth: 0.8mm; Radiation Hardening: No; REACH SVHC: No SVHC; Lead Free: Lead Free; RoHS Compliant: Yes; ComponentLink1URL: https://datasheet.ciiva.com/26862/getdatasheetpartid-403531-26862766.pdf?src-supplier=Verical; ComponentLink1Description: https://datasheet.ciiva.com/26862/getdatasheetpartid-403531-26862766.pdf?src-supplier=Verical; ComponentLink2URL: https://datasheet.ciiva.com/13264/upy-gp-np0-16v-to-50v-8-3714-13264406.pdf?src-supplier=Mouser; ComponentLink2Description: https://datasheet.ciiva.com/13264/upy-gp-np0-16v-to-50v-8-3714-13264406.pdf?src-supplier=Mouser; ComponentLink3URL: https://datasheet.ciiva.com/7978/1132289-7978140.pdf?src-supplier=Element14; ComponentLink3Description: https://datasheet.ciiva.com/7978/1132289-7978140.pdf?src-supplier=Element14; ComponentLink4URL: https://datasheet.ciiva.com/28450/1443161-28450494.pdf?src-supplier=Element14; ComponentLink4Description: https://datasheet.ciiva.com/28450/1443161-28450494.pdf?src-supplier=Element14; Supplier Part Number 1: 311-3357-1-ND
footprint Cap 0603
pins: 1, 2

## CC0603JRNPO9BN470
designator C?, comment 47pF
CAP CER 47PF 50V C0G/NPO 0603; Manufacturer: Yageo Phycomp; Manufacturer Part Number: CC0603JRNPO9BN470; Tolerance: 5%; Dielectric: C0G; Insulation Resistance: 100GR; Temperature Coefficient: 30ppm/°C; Supplier 1: Digi-Key; RoHS: Yes; Category: Ceramic Capacitors; Stock 1: 272002; Pricing 1: 1=0.10000, 10=0.03800, 50=0.02100, 100=0.01710, 500=0.01220, 1000=0.00959 (USD); Mount: Surface Mount; Case/Package: 0603; Number of Pins: 2; Case Code (Imperial): 0603; Case Code (Metric): 1608; Min Operating Temperature: -55°C; Max Operating Temperature: 125°C; Capacitance: 47pF; Voltage Rating: 50V; Packaging: Tape and Reel; Voltage Rating (DC): 50V; Voltage: 50V; Package Quantity: 1; Termination: SMD/SMT; Resistor Type: Ceramic; Length: 1.6mm; Width: 0.8mm; Height: 0.8mm; Thickness: 0.035inch; Depth: 0.8mm; Radiation Hardening: No; REACH SVHC: No SVHC; Lead Free: Lead Free; ComponentLink1URL: https://datasheet.ciiva.com/11786/0900766b8079c870-11786054.pdf?src-supplier=RSComponents; ComponentLink1Description: https://datasheet.ciiva.com/11786/0900766b8079c870-11786054.pdf?src-supplier=RSComponents; ComponentLink2URL: https://datasheet.ciiva.com/43500/upy-gp-np0-16v-to-50v-8-43500120.pdf?src-supplier=Avnet; ComponentLink2Description: https://datasheet.ciiva.com/43500/upy-gp-np0-16v-to-50v-8-43500120.pdf?src-supplier=Avnet; ComponentLink3URL: https://datasheet.ciiva.com/30520/1443161-30520458.pdf?src-supplier=Element14; ComponentLink3Description: https://datasheet.ciiva.com/30520/1443161-30520458.pdf?src-supplier=Element14; ComponentLink4URL: https://datasheet.ciiva.com/30520/1443161-30520459.pdf?src-supplier=Element14; ComponentLink4Description: https://datasheet.ciiva.com/30520/1443161-30520459.pdf?src-supplier=Element14; ComponentLink5URL: https://datasheet.ciiva.com/31456/1132289-31456555.pdf?src-supplier=Farnell; ComponentLink5Description: https://datasheet.ciiva.com/31456/1132289-31456555.pdf?src-supplier=Farnell; ComponentLink6URL: https://datasheet.ciiva.com/46364/mlccorderingcode-46364509.pdf?src-supplier=Digi-Key; ComponentLink6Description: https://datasheet.ciiva.com/46364/mlccorderingcode-46364509.pdf?src-supplier=Digi-Key; ComponentLink7URL: https://datasheet.ciiva.com/46364/mlccorderingcode-46364510.pdf?src-supplier=Digi-Key; ComponentLink7Description: https://datasheet.ciiva.com/46364/mlccorderingcode-46364510.pdf?src-supplier=Digi-Key; ComponentLink8URL: https://datasheet.ciiva.com/46364/mlccorderingcode-46364511.pdf?src-supplier=Digi-Key; ComponentLink8Description: https://datasheet.ciiva.com/46364/mlccorderingcode-46364511.pdf?src-supplier=Digi-Key; Supplier Part Number 1: 311-1065-1-ND
footprint Cap 0603
pins: 1, 2

## CC0603JRNPO9BN680
designator C?, comment 68pF
CAP CER 68PF 50V C0G/NPO 0603; Manufacturer: Yageo; Manufacturer Part Number: CC0603JRNPO9BN680; Tolerance: 5%; Dielectric: C0G; Temperature Coefficient: 30ppm/°C; Insulation Resistance: 10GR; Dissipation Factor: 0.1%; Supplier 1: Digi-Key; RoHS: Yes; Category: Ceramic Capacitors; Stock 1: 130968; Pricing 1: 1=0.10000, 10=0.04100, 50=0.02220, 100=0.01810, 500=0.01294, 1000=0.01016 (USD); Mount: Surface Mount; Case/Package: 0603; Number of Pins: 2; Case Code (Imperial): 0603; Case Code (Metric): 1608; Min Operating Temperature: -55°C; Max Operating Temperature: 125°C; Capacitance: 68pF; Voltage: 50V; Voltage Rating: 50V; Voltage Rating (DC): 50V; Package Quantity: 1; Packaging: Tape and Reel; Termination: SMD/SMT; Resistor Type: Ceramic; Series: CC; Length: 1.6mm; Width: 0.8mm; Height: 0.8mm; Thickness: 0.035inch; Depth: 0.8mm; Radiation Hardening: No; RoHS Compliant: Yes; REACH SVHC: No SVHC; Lead Free: Lead Free; ComponentLink1URL: https://datasheet.ciiva.com/11786/0900766b8079c870-11786208.pdf?src-supplier=RSComponents; ComponentLink1Description: https://datasheet.ciiva.com/11786/0900766b8079c870-11786208.pdf?src-supplier=RSComponents; ComponentLink2URL: https://datasheet.ciiva.com/26862/getdatasheetpartid-403540-26862777.pdf?src-supplier=Verical; ComponentLink2Description: https://datasheet.ciiva.com/26862/getdatasheetpartid-403540-26862777.pdf?src-supplier=Verical; ComponentLink3URL: https://datasheet.ciiva.com/7978/1132289-7978153.pdf?src-supplier=Element14; ComponentLink3Description: https://datasheet.ciiva.com/7978/1132289-7978153.pdf?src-supplier=Element14; ComponentLink4URL: https://datasheet.ciiva.com/144/mlccorderingcode-144041.pdf?src-supplier=Digi-Key; ComponentLink4Description: https://datasheet.ciiva.com/144/mlccorderingcode-144041.pdf?src-supplier=Digi-Key; ComponentLink5URL: https://datasheet.ciiva.com/144/mlccorderingcode-144040.pdf?src-supplier=Digi-Key; ComponentLink5Description: https://datasheet.ciiva.com/144/mlccorderingcode-144040.pdf?src-supplier=Digi-Key; ComponentLink6URL: https://datasheet.ciiva.com/144/mlccorderingcode-144042.pdf?src-supplier=Digi-Key; ComponentLink6Description: https://datasheet.ciiva.com/144/mlccorderingcode-144042.pdf?src-supplier=Digi-Key; ComponentLink7URL: https://datasheet.ciiva.com/5426/upy-gp-np0-16v-to-50v-8-5426613.pdf?src-supplier=Mouser; ComponentLink7Description: https://datasheet.ciiva.com/5426/upy-gp-np0-16v-to-50v-8-5426613.pdf?src-supplier=Mouser; ComponentLink8URL: https://datasheet.ciiva.com/8033/1443161-8033759.pdf?src-supplier=Element14; ComponentLink8Description: https://datasheet.ciiva.com/8033/1443161-8033759.pdf?src-supplier=Element14; ComponentLink9URL: https://datasheet.ciiva.com/11465/upy-gp-np0-16v-to-50v-8-11465017.pdf?src-supplier=Avnet; ComponentLink9Description: https://datasheet.ciiva.com/11465/upy-gp-np0-16v-to-50v-8-11465017.pdf?src-supplier=Avnet; ComponentLink10URL: https://datasheet.ciiva.com/17437/upy-gp-np0-16v-to-50v-8-17437032.pdf?src-supplier=Avnet+Europe; ComponentLink10Description: https://datasheet.ciiva.com/17437/upy-gp-np0-16v-to-50v-8-17437032.pdf?src-supplier=Avnet+Europe; Supplier Part Number 1: 311-1067-1-ND
footprint Cap 0603
pins: 1, 2

## CC0603KRX5R8BB105
designator C?, comment 1uF
CAP CER 1UF 25V X5R 0603; Manufacturer: Yageo; Manufacturer Part Number: CC0603KRX5R8BB105; Tolerance: 10%; Supplier 1: Digi-Key; RoHS: Yes; Category: Ceramic Capacitors; Stock 1: 919939; Pricing 1: 1=0.12000, 10=0.08400, 50=0.04760, 100=0.03940, 500=0.02764, 1000=0.02288 (USD); Mount: Surface Mount; Case/Package: 0603; Number of Pins: 2; Case Code (Metric): 1608; Case Code (Imperial): 0603; Min Operating Temperature: -55°C; Max Operating Temperature: 85°C; Capacitance: 1uF; Dielectric: X5R; Package Quantity: 1; Voltage Rating: 25V; Packaging: Tape and Reel; Termination: SMD/SMT; Voltage Rating (DC): 25V; Series: CC; Construction: Flat; Length: 1.6mm; Width: 0.031inch; Height: 0.8mm; Thickness: 0.035inch; Depth: 0.8mm; Radiation Hardening: No; REACH SVHC: No SVHC; Lead Free: Lead Free; Halogen Free: Halogen Free; RoHS Compliant: Yes; ComponentLink1URL: https://datasheet.ciiva.com/176/mlccorderingcode-176785.pdf?src-supplier=Digi-Key; ComponentLink1Description: https://datasheet.ciiva.com/176/mlccorderingcode-176785.pdf?src-supplier=Digi-Key; ComponentLink2URL: https://datasheet.ciiva.com/176/mlccorderingcode-176786.pdf?src-supplier=Digi-Key; ComponentLink2Description: https://datasheet.ciiva.com/176/mlccorderingcode-176786.pdf?src-supplier=Digi-Key; ComponentLink3URL: https://datasheet.ciiva.com/176/mlccorderingcode-176787.pdf?src-supplier=Digi-Key; ComponentLink3Description: https://datasheet.ciiva.com/176/mlccorderingcode-176787.pdf?src-supplier=Digi-Key; ComponentLink4URL: https://datasheet.ciiva.com/17436/upy-gphc-x5r-4v-to-50v-12-17436952.pdf?src-supplier=Avnet+Europe; ComponentLink4Description: https://datasheet.ciiva.com/17436/upy-gphc-x5r-4v-to-50v-12-17436952.pdf?src-supplier=Avnet+Europe; ComponentLink5URL: https://datasheet.ciiva.com/7978/1525783-7978171.pdf?src-supplier=Element14; ComponentLink5Description: https://datasheet.ciiva.com/7978/1525783-7978171.pdf?src-supplier=Element14; ComponentLink6URL: https://datasheet.ciiva.com/11586/upy-gphc-x5r-4v-to-50v-12-11586318.pdf?src-supplier=Avnet; ComponentLink6Description: https://datasheet.ciiva.com/11586/upy-gphc-x5r-4v-to-50v-12-11586318.pdf?src-supplier=Avnet; Supplier Part Number 1: 311-1445-1-ND
footprint Cap 0603
pins: 1, 2

## CC0603KRX7R0BB104
designator C?, comment 0.1uF
CAP CER 0.1UF 100V X7R 0603; Manufacturer: Yageo; Manufacturer Part Number: CC0603KRX7R0BB104; Capacitance: 100nF; Tolerance: 10%; Supplier 1: Digi-Key; RoHS: Yes; Category: Ceramic Capacitors; Stock 1: 60476; Pricing 1: 1=0.19000, 10=0.13500, 50=0.07680, 100=0.06370, 500=0.04466, 1000=0.03696 (USD); Mount: Surface Mount; Case/Package: 0603; Case Code (Metric): 1608; Case Code (Imperial): 0603; Weight: 7.1E-05oz; Min Operating Temperature: -55°C; Max Operating Temperature: 125°C; Package Quantity: 4000; Voltage Rating: 100V; Packaging: Tape and Reel; Dielectric: X7R; Termination: SMD/SMT; Resistor Type: Ceramic; Voltage Rating (DC): 100V; Series: CC; Length: 0.063inch; Width: 0.031inch; Thickness: 0.035inch; Depth: 0.8mm; Lead Free: Lead Free; RoHS Compliant: Yes; ComponentLink1URL: https://datasheet.ciiva.com/6277/mlccorderingcode-6277030.pdf?src-supplier=Digi-Key; ComponentLink1Description: https://datasheet.ciiva.com/6277/mlccorderingcode-6277030.pdf?src-supplier=Digi-Key; ComponentLink2URL: https://datasheet.ciiva.com/6277/mlccorderingcode-6277081.pdf?src-supplier=Digi-Key; ComponentLink2Description: https://datasheet.ciiva.com/6277/mlccorderingcode-6277081.pdf?src-supplier=Digi-Key; ComponentLink3URL: https://datasheet.ciiva.com/6277/mlccorderingcode-6277082.pdf?src-supplier=Digi-Key; ComponentLink3Description: https://datasheet.ciiva.com/6277/mlccorderingcode-6277082.pdf?src-supplier=Digi-Key; Supplier Part Number 1: 311-1523-1-ND
footprint Cap 0603
pins: 1, 2